# Altium schematic symbol library theswitch.SchLib: 22 symbols
Pins are listed as number, name and electrical type; pins without a type are passive.

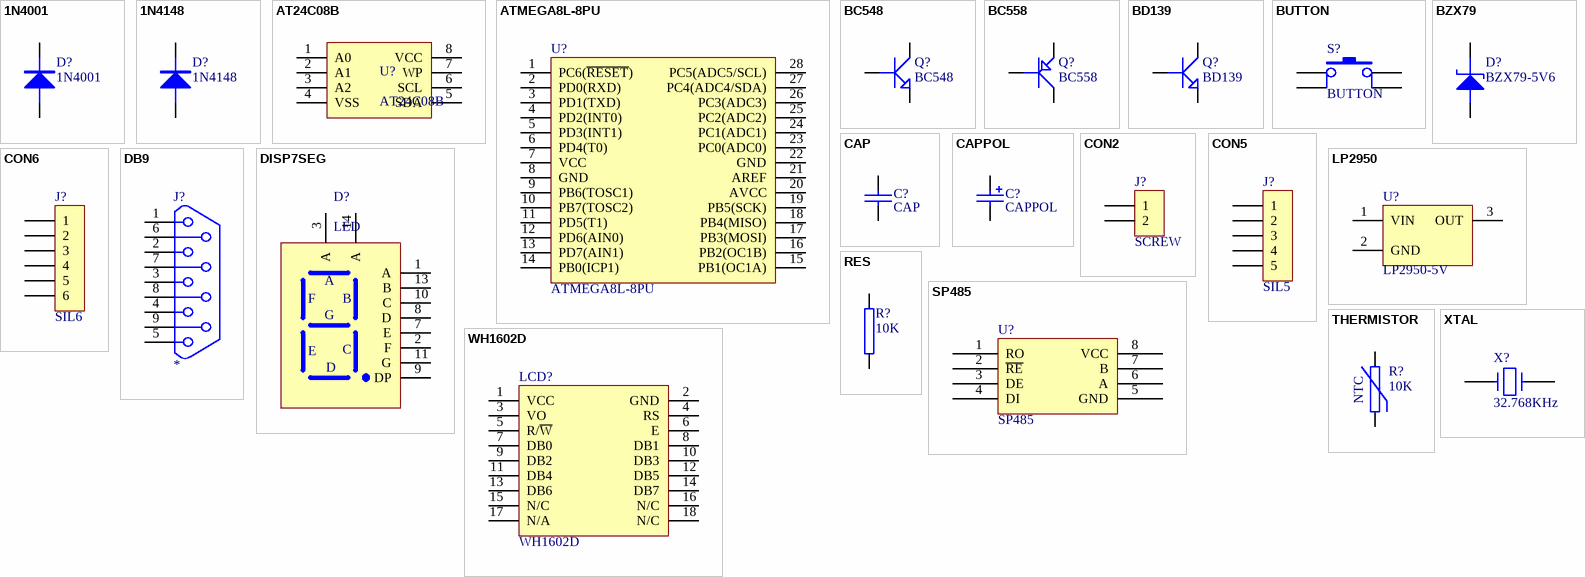
[diagram p0: symbols 1N4001 to XTAL]

## 1N4001
designator D?
footprint DO35
footprint DO35S
pins: 1 A, 2 K

## 1N4148
designator D?
footprint DO35
footprint DO35S
pins: 1 A, 2 K

## AT24C08B
designator U?
I2C 8KBIT EEPROM
footprint SO8
footprint DIP8
pins: 1 A0, 2 A1, 3 A2, 4 VSS, 5 SDA, 6 SCL, 7 WP, 8 VCC

## ATMEGA8L-8PU
designator U?
MICROCONTROLLER
footprint DIP28N
pins: 1 PC6(~{RESET}), 2 PD0(RXD), 3 PD1(TXD), 4 PD2(INT0), 5 PD3(INT1) (power), 6 PD4(T0) (power), 7 VCC, 8 GND, 9 PB6(TOSC1), 10 PB7(TOSC2), 11 PD5(T1), 12 PD6(AIN0), 13 PD7(AIN1), 14 PB0(ICP1), 15 PB1(OC1A), 16 PB2(OC1B), 17 PB3(MOSI), 18 PB4(MISO), 19 PB5(SCK), 20 AVCC, 21 AREF, 22 GND, 23 PC0(ADC0), 24 PC1(ADC1), 25 PC2(ADC2), 26 PC3(ADC3), 27 PC4(ADC4/SDA), 28 PC5(ADC5/SCL)

## BC548
designator Q?
footprint TO92
pins: 1 E, 2 B, 3 C

## BC558
designator Q?
footprint TO92
pins: 1 E, 2 B, 3 C

## BD139
designator Q?
footprint TO220V
pins: 1 E, 2 C, 3 B

## BUTTON
designator S?
PUSH BUTTON SWITCH
footprint BUTTON
footprint SWPB
pins: 1, 2, 3, 4

## BZX79
designator D?, comment BZX79-5V6
ZENER DIODE
footprint DO35
footprint DO35S
pins: 1 A, 2 K

## CAP
designator C?
CAPACITOR
footprint RADIAL02
footprint RAD02
pins: 1, 2

## CAPPOL
designator C?
footprint RADIAL01P
footprint RADIAL01P
pins: 1, 2

## CON2
designator J?, comment SCREW
CONNECTOR; Text Field1: 2 PIN 2.54MM PITCH SINGLE
footprint SIL2
footprint MKD500S2
pins: 1, 2

## CON5
designator J?, comment SIL5
CONNECTOR; Text Field1: 5 PIN 2.54MM PITCH SINGLE
footprint SIL5
pins: 1, 2, 3, 4, 5

## CON6
designator J?, comment SIL6
CONNECTOR; Text Field1: 6 PIN 2.54MM PITCH SINGLE
footprint SIL6
pins: 1, 2, 3, 4, 5, 6

## DB9
designator J?
CONNECTOR; Text Field1: DB9 FEM 90 DEG
footprint DB9FR
pins: 1, 2, 3, 4, 5, 6, 7, 8, 9

## DISP7SEG
designator D?, comment LED
LED DISPLAY 7 SEGMENT
footprint TOS4102 (LED 7 SEGMENT)
pins: 1 A, 2 F, 3 A, 7 E, 8 D, 9 DP, 10 C, 11 G, 13 B, 14 A

## LP2950
designator U?, comment LP2950-5V
LP2950
footprint TO92
pins: 1 VIN, 2 GND (power), 3 OUT

## RES
designator R?, comment 10K
RESISTOR
footprint 0603
footprint 0805
footprint 1206
footprint AXIAL05
footprint AXIAL04
pins: 1, 2

## SP485
designator U?
RS-485 TRANSCEIVER; Text Field1: SP485
footprint DIP8
pins: 1 RO, 2 ~{RE}, 3 DE, 4 DI, 5 GND, 6 A, 7 B, 8 VCC

## THERMISTOR
designator R?, comment 10K
THERMISTOR
footprint RAD02
pins: 1, 2
text: NTC

## WH1602D
designator LCD?
WINSTAR LCD DISPLAY 16 X 2
footprint LCDWH1602D
pins: 1 VCC, 2 GND, 3 VO, 4 RS, 5 R/~{W}, 6 E, 7 DB0, 8 DB1, 9 DB2, 10 DB3, 11 DB4, 12 DB5, 13 DB6, 14 DB7, 15 N/C, 16 N/C, 17 N/A, 18 N/C

## XTAL
designator X?, comment 32.768KHz
CRYSTAL
footprint HC49
footprint RADIAL01
pins: 1, 2